# Altium schematic symbol library kmilo17pet-LT_OpAmp_LT1000.SchLib: 2280 symbols (part 75 of 79)
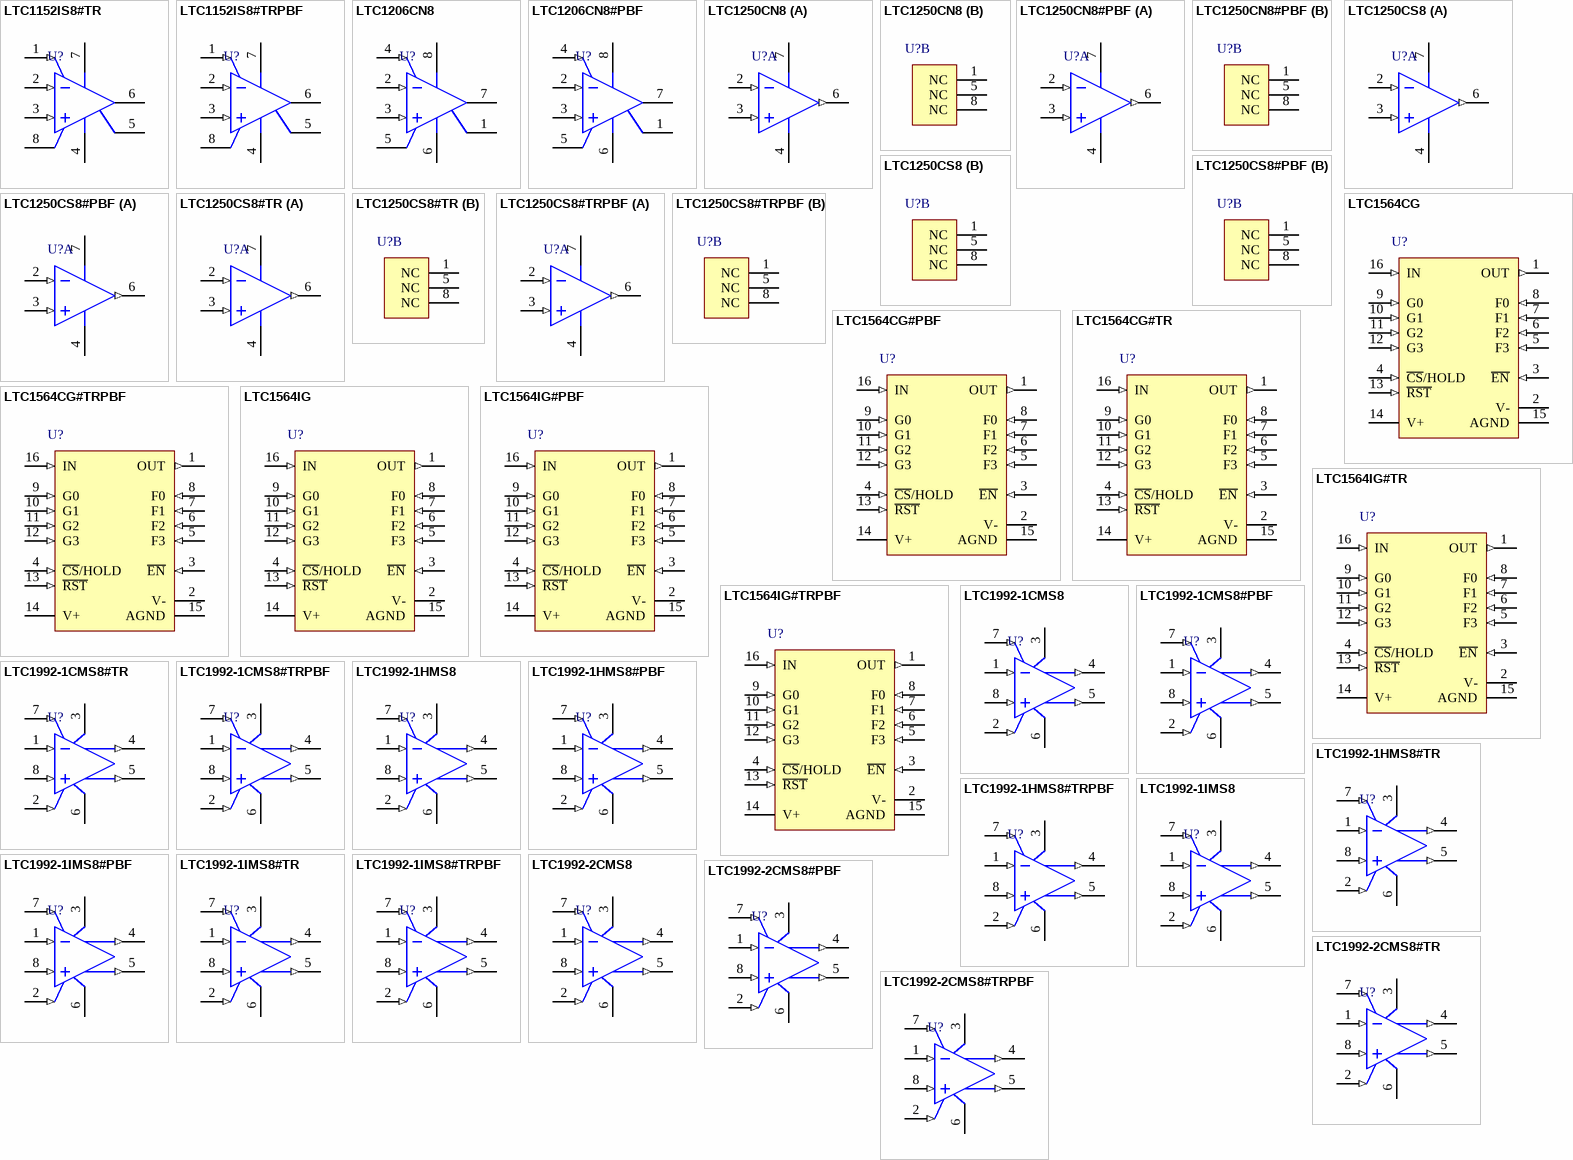
[diagram p179: symbols LTC1152IS8#TR to LTC1992-2CMS8#TRPBF]

## LTC1564CG#TRPBF
designator U?
Single Channel, Digitally Controlled Antialiasing Filter and 4-Bit PGA, 0.15 MHz Typical GBW, 2.7 to 10.5 V, 16-Pin SOP (G16), Commercial, Pb-Free, Reel; Linear Technology Part Number: LTC1564; Manufacturer: Linear Technology; PartNumber: LTC1564CG#TRPBF; Channels (#): 1; GBW (MHz) Typical: 0.15; Is (mA) Typical: 15; Vos (mV) Typical: 3; Vs Max (V): 10.5; Vs Min (V): 2.7; DatasheetVersion: Rev. A; PackageReference: LT-G-16; PackageDescription: 16-Lead Plastic SSOP, Body 6.2 x 5.3 mm, Pitch 0.65 mm; Supplier 1: Digi-Key; Supplier Part Number 1: LTC1564CG#TRPBF-ND; Packing: Reel; RoHS: Pb-Free; Type: PGA; Mounting Technology: Surface Mount; ComponentLink1Description: Manufacturer URL; ComponentLink1URL: http://www.linear.com/; ComponentLink2Description: Datasheet; ComponentLink2URL: http://cds.linear.com/docs/en/datasheet/1564fa.pdf; ComponentLink3Description: Package Specification; ComponentLink3URL: http://cds.linear.com/docs/en/packaging/SSOP_16_05-08-1640.pdf
footprint LT-G-16_N (SOP, 16-Leads, Body 6.2x5.3mm, Pitch 0.65mm, IPC Medium Density)
footprint LT-G-16_L (SOP, 16-Leads, Body 6.2x5.3mm, Pitch 0.65mm, IPC High Density)
footprint LT-G-16_M (SOP, 16-Leads, Body 6.2x5.3mm, Pitch 0.65mm, IPC Low Density)
pins: 1 OUT (out) "Analog Output. In normal filtering, this is the output of an internal operational amplifier and is capable of swinging essentially to any voltage between the power supply rails (that is, between V+ and V-). This output is (See Datasheet)", 2 V- (power) "Power Supply Pins. The V+ and V- pins should be bypassed with 0.1uF capacitors to an adequate analog ground plane using the shortest possible wiring. Electrically clean supplies and a low impedance ground are important for (See Datasheet)", 3 ~{EN} (in) "CMOS-Level Digital Chip Enable Input. Logic 1 or open circuiting this pin causes a shutdown mode with reduced supply current. The active circuitry in the LTC1564 shuts off and its output assumes a high impedance state. If F (See Datasheet)", 4 ~{CS}/HOLD (in) "CMOS-Level Digital Enable Input for the Latch Holding F and G Bits. Logic 0 makes the latch transparent so that the F and G inputs directly control the filter’s cutoff frequency and gain. Logic 1 holds the last values of (See Datasheet)", 5 F3 (in) "CMOS-Level Digital Frequency Control ("F Code") Inputs. F3 is the most significant bit (MSB). These pins program the LTC1564’s cutoff frequency fC through the internal latch, whichpasses the bits directly when the CS/HOLD (See Datasheet)", 6 F2 (in) "CMOS-Level Digital Frequency Control ("F Code") Inputs. F3 is the most significant bit (MSB). These pins program the LTC1564’s cutoff frequency fC through the internal latch, whichpasses the bits directly when the CS/HOLD (See Datasheet)", 7 F1 (in) "CMOS-Level Digital Frequency Control ("F Code") Inputs. F3 is the most significant bit (MSB). These pins program the LTC1564’s cutoff frequency fC through the internal latch, whichpasses the bits directly when the CS/HOLD (See Datasheet)", 8 F0 (in) "CMOS-Level Digital Frequency Control ("F Code") Inputs. F3 is the most significant bit (MSB). These pins program the LTC1564’s cutoff frequency fC through the internal latch, whichpasses the bits directly when the CS/HOLD (See Datasheet)", 9 G0 (in) "CMOS-Level Digital Gain Control ("G Code") Inputs. G3 is the most significant bit (MSB). These pins program the LTC1564’s passband gain through the internal latch, which passes the bits directly when the CS/HOLD input is at (See Datasheet)", 10 G1 (in) "CMOS-Level Digital Gain Control ("G Code") Inputs. G3 is the most significant bit (MSB). These pins program the LTC1564’s passband gain through the internal latch, which passes the bits directly when the CS/HOLD input is at (See Datasheet)", 11 G2 (in) "CMOS-Level Digital Gain Control ("G Code") Inputs. G3 is the most significant bit (MSB). These pins program the LTC1564’s passband gain through the internal latch, which passes the bits directly when the CS/HOLD input is at (See Datasheet)", 12 G3 (in) "CMOS-Level Digital Gain Control ("G Code") Inputs. G3 is the most significant bit (MSB). These pins program the LTC1564’s passband gain through the internal latch, which passes the bits directly when the CS/HOLD input is at (See Datasheet)", 13 ~{RST} (in) "CMOS-Level Asynchronous Reset Input. Logic 0 on this pin immediately resets the internal F and G latch to all zeros, regardless of the state of the CS/HOLD pin or the F or G input pins. This causes the LTC1564 to enter a (See Datasheet)", 14 V+ (power) "Power Supply Pins. The V+ and V- pins should be bypassed with 0.1uF capacitors to an adequate analog ground plane using the shortest possible wiring. Electrically clean supplies and a low impedance ground are important for (See Datasheet)", 15 AGND (power) "Analog Ground. The AGND pin is at the midpoint of an internal resistive voltage divider, developing a potential halfway between the V+ and V- pins, with an equivalent series resistance to the pin of nominally 7k. (In the (See Datasheet)", 16 IN (in) "Analog Input. The filter in the LTC1564 senses the voltage difference between the IN and AGND pins. In normal filtering (EN = 0, RST = 1, F code other than 0000), the IN pin connects within the LTC1564 to a digitally (See Datasheet)"

## LTC1564IG
designator U?
Single Channel, Digitally Controlled Antialiasing Filter and 4-Bit PGA, 0.15 MHz Typical GBW, 2.7 to 10.5 V, 16-Pin SOP (G16), Industrial; Linear Technology Part Number: LTC1564; Manufacturer: Linear Technology; PartNumber: LTC1564IG; Channels (#): 1; GBW (MHz) Typical: 0.15; Is (mA) Typical: 15; Vos (mV) Typical: 3; Vs Max (V): 10.5; Vs Min (V): 2.7; DatasheetVersion: Rev. A; PackageReference: LT-G-16; PackageDescription: 16-Lead Plastic SSOP, Body 6.2 x 5.3 mm, Pitch 0.65 mm; Supplier 1: Newark; Supplier Part Number 1: 56M2178; Type: PGA; Mounting Technology: Surface Mount; ComponentLink1Description: Manufacturer URL; ComponentLink1URL: http://www.linear.com/; ComponentLink2Description: Datasheet; ComponentLink2URL: http://cds.linear.com/docs/en/datasheet/1564fa.pdf; ComponentLink3Description: Package Specification; ComponentLink3URL: http://cds.linear.com/docs/en/packaging/SSOP_16_05-08-1640.pdf
footprint LT-G-16_N (SOP, 16-Leads, Body 6.2x5.3mm, Pitch 0.65mm, IPC Medium Density)
footprint LT-G-16_L (SOP, 16-Leads, Body 6.2x5.3mm, Pitch 0.65mm, IPC High Density)
footprint LT-G-16_M (SOP, 16-Leads, Body 6.2x5.3mm, Pitch 0.65mm, IPC Low Density)
pins: 1 OUT (out) "Analog Output. In normal filtering, this is the output of an internal operational amplifier and is capable of swinging essentially to any voltage between the power supply rails (that is, between V+ and V-). This output is (See Datasheet)", 2 V- (power) "Power Supply Pins. The V+ and V- pins should be bypassed with 0.1uF capacitors to an adequate analog ground plane using the shortest possible wiring. Electrically clean supplies and a low impedance ground are important for (See Datasheet)", 3 ~{EN} (in) "CMOS-Level Digital Chip Enable Input. Logic 1 or open circuiting this pin causes a shutdown mode with reduced supply current. The active circuitry in the LTC1564 shuts off and its output assumes a high impedance state. If F (See Datasheet)", 4 ~{CS}/HOLD (in) "CMOS-Level Digital Enable Input for the Latch Holding F and G Bits. Logic 0 makes the latch transparent so that the F and G inputs directly control the filter’s cutoff frequency and gain. Logic 1 holds the last values of (See Datasheet)", 5 F3 (in) "CMOS-Level Digital Frequency Control ("F Code") Inputs. F3 is the most significant bit (MSB). These pins program the LTC1564’s cutoff frequency fC through the internal latch, whichpasses the bits directly when the CS/HOLD (See Datasheet)", 6 F2 (in) "CMOS-Level Digital Frequency Control ("F Code") Inputs. F3 is the most significant bit (MSB). These pins program the LTC1564’s cutoff frequency fC through the internal latch, whichpasses the bits directly when the CS/HOLD (See Datasheet)", 7 F1 (in) "CMOS-Level Digital Frequency Control ("F Code") Inputs. F3 is the most significant bit (MSB). These pins program the LTC1564’s cutoff frequency fC through the internal latch, whichpasses the bits directly when the CS/HOLD (See Datasheet)", 8 F0 (in) "CMOS-Level Digital Frequency Control ("F Code") Inputs. F3 is the most significant bit (MSB). These pins program the LTC1564’s cutoff frequency fC through the internal latch, whichpasses the bits directly when the CS/HOLD (See Datasheet)", 9 G0 (in) "CMOS-Level Digital Gain Control ("G Code") Inputs. G3 is the most significant bit (MSB). These pins program the LTC1564’s passband gain through the internal latch, which passes the bits directly when the CS/HOLD input is at (See Datasheet)", 10 G1 (in) "CMOS-Level Digital Gain Control ("G Code") Inputs. G3 is the most significant bit (MSB). These pins program the LTC1564’s passband gain through the internal latch, which passes the bits directly when the CS/HOLD input is at (See Datasheet)", 11 G2 (in) "CMOS-Level Digital Gain Control ("G Code") Inputs. G3 is the most significant bit (MSB). These pins program the LTC1564’s passband gain through the internal latch, which passes the bits directly when the CS/HOLD input is at (See Datasheet)", 12 G3 (in) "CMOS-Level Digital Gain Control ("G Code") Inputs. G3 is the most significant bit (MSB). These pins program the LTC1564’s passband gain through the internal latch, which passes the bits directly when the CS/HOLD input is at (See Datasheet)", 13 ~{RST} (in) "CMOS-Level Asynchronous Reset Input. Logic 0 on this pin immediately resets the internal F and G latch to all zeros, regardless of the state of the CS/HOLD pin or the F or G input pins. This causes the LTC1564 to enter a (See Datasheet)", 14 V+ (power) "Power Supply Pins. The V+ and V- pins should be bypassed with 0.1uF capacitors to an adequate analog ground plane using the shortest possible wiring. Electrically clean supplies and a low impedance ground are important for (See Datasheet)", 15 AGND (power) "Analog Ground. The AGND pin is at the midpoint of an internal resistive voltage divider, developing a potential halfway between the V+ and V- pins, with an equivalent series resistance to the pin of nominally 7k. (In the (See Datasheet)", 16 IN (in) "Analog Input. The filter in the LTC1564 senses the voltage difference between the IN and AGND pins. In normal filtering (EN = 0, RST = 1, F code other than 0000), the IN pin connects within the LTC1564 to a digitally (See Datasheet)"

## LTC1564IG#PBF
designator U?
Single Channel, Digitally Controlled Antialiasing Filter and 4-Bit PGA, 0.15 MHz Typical GBW, 2.7 to 10.5 V, 16-Pin SOP (G16), Industrial, Pb-Free; Linear Technology Part Number: LTC1564; Manufacturer: Linear Technology; PartNumber: LTC1564IG#PBF; Channels (#): 1; GBW (MHz) Typical: 0.15; Is (mA) Typical: 15; Vos (mV) Typical: 3; Vs Max (V): 10.5; Vs Min (V): 2.7; DatasheetVersion: Rev. A; PackageReference: LT-G-16; PackageDescription: 16-Lead Plastic SSOP, Body 6.2 x 5.3 mm, Pitch 0.65 mm; Supplier 1: Digi-Key; Supplier Part Number 1: LTC1564IG#PBF-ND; Supplier 2: Farnell; Supplier Part Number 2: 1663646; Supplier 3: Newark; Supplier Part Number 3: 56M2179; RoHS: Pb-Free; Type: PGA; Mounting Technology: Surface Mount; ComponentLink1Description: Manufacturer URL; ComponentLink1URL: http://www.linear.com/; ComponentLink2Description: Datasheet; ComponentLink2URL: http://cds.linear.com/docs/en/datasheet/1564fa.pdf; ComponentLink3Description: Package Specification; ComponentLink3URL: http://cds.linear.com/docs/en/packaging/SSOP_16_05-08-1640.pdf
footprint LT-G-16_N (SOP, 16-Leads, Body 6.2x5.3mm, Pitch 0.65mm, IPC Medium Density)
footprint LT-G-16_L (SOP, 16-Leads, Body 6.2x5.3mm, Pitch 0.65mm, IPC High Density)
footprint LT-G-16_M (SOP, 16-Leads, Body 6.2x5.3mm, Pitch 0.65mm, IPC Low Density)
pins: 1 OUT (out) "Analog Output. In normal filtering, this is the output of an internal operational amplifier and is capable of swinging essentially to any voltage between the power supply rails (that is, between V+ and V-). This output is (See Datasheet)", 2 V- (power) "Power Supply Pins. The V+ and V- pins should be bypassed with 0.1uF capacitors to an adequate analog ground plane using the shortest possible wiring. Electrically clean supplies and a low impedance ground are important for (See Datasheet)", 3 ~{EN} (in) "CMOS-Level Digital Chip Enable Input. Logic 1 or open circuiting this pin causes a shutdown mode with reduced supply current. The active circuitry in the LTC1564 shuts off and its output assumes a high impedance state. If F (See Datasheet)", 4 ~{CS}/HOLD (in) "CMOS-Level Digital Enable Input for the Latch Holding F and G Bits. Logic 0 makes the latch transparent so that the F and G inputs directly control the filter’s cutoff frequency and gain. Logic 1 holds the last values of (See Datasheet)", 5 F3 (in) "CMOS-Level Digital Frequency Control ("F Code") Inputs. F3 is the most significant bit (MSB). These pins program the LTC1564’s cutoff frequency fC through the internal latch, whichpasses the bits directly when the CS/HOLD (See Datasheet)", 6 F2 (in) "CMOS-Level Digital Frequency Control ("F Code") Inputs. F3 is the most significant bit (MSB). These pins program the LTC1564’s cutoff frequency fC through the internal latch, whichpasses the bits directly when the CS/HOLD (See Datasheet)", 7 F1 (in) "CMOS-Level Digital Frequency Control ("F Code") Inputs. F3 is the most significant bit (MSB). These pins program the LTC1564’s cutoff frequency fC through the internal latch, whichpasses the bits directly when the CS/HOLD (See Datasheet)", 8 F0 (in) "CMOS-Level Digital Frequency Control ("F Code") Inputs. F3 is the most significant bit (MSB). These pins program the LTC1564’s cutoff frequency fC through the internal latch, whichpasses the bits directly when the CS/HOLD (See Datasheet)", 9 G0 (in) "CMOS-Level Digital Gain Control ("G Code") Inputs. G3 is the most significant bit (MSB). These pins program the LTC1564’s passband gain through the internal latch, which passes the bits directly when the CS/HOLD input is at (See Datasheet)", 10 G1 (in) "CMOS-Level Digital Gain Control ("G Code") Inputs. G3 is the most significant bit (MSB). These pins program the LTC1564’s passband gain through the internal latch, which passes the bits directly when the CS/HOLD input is at (See Datasheet)", 11 G2 (in) "CMOS-Level Digital Gain Control ("G Code") Inputs. G3 is the most significant bit (MSB). These pins program the LTC1564’s passband gain through the internal latch, which passes the bits directly when the CS/HOLD input is at (See Datasheet)", 12 G3 (in) "CMOS-Level Digital Gain Control ("G Code") Inputs. G3 is the most significant bit (MSB). These pins program the LTC1564’s passband gain through the internal latch, which passes the bits directly when the CS/HOLD input is at (See Datasheet)", 13 ~{RST} (in) "CMOS-Level Asynchronous Reset Input. Logic 0 on this pin immediately resets the internal F and G latch to all zeros, regardless of the state of the CS/HOLD pin or the F or G input pins. This causes the LTC1564 to enter a (See Datasheet)", 14 V+ (power) "Power Supply Pins. The V+ and V- pins should be bypassed with 0.1uF capacitors to an adequate analog ground plane using the shortest possible wiring. Electrically clean supplies and a low impedance ground are important for (See Datasheet)", 15 AGND (power) "Analog Ground. The AGND pin is at the midpoint of an internal resistive voltage divider, developing a potential halfway between the V+ and V- pins, with an equivalent series resistance to the pin of nominally 7k. (In the (See Datasheet)", 16 IN (in) "Analog Input. The filter in the LTC1564 senses the voltage difference between the IN and AGND pins. In normal filtering (EN = 0, RST = 1, F code other than 0000), the IN pin connects within the LTC1564 to a digitally (See Datasheet)"

## LTC1564IG#TR
designator U?
Single Channel, Digitally Controlled Antialiasing Filter and 4-Bit PGA, 0.15 MHz Typical GBW, 2.7 to 10.5 V, 16-Pin SOP (G16), Industrial, Reel; Linear Technology Part Number: LTC1564; Manufacturer: Linear Technology; PartNumber: LTC1564IG#TR; Channels (#): 1; GBW (MHz) Typical: 0.15; Is (mA) Typical: 15; Vos (mV) Typical: 3; Vs Max (V): 10.5; Vs Min (V): 2.7; DatasheetVersion: Rev. A; PackageReference: LT-G-16; PackageDescription: 16-Lead Plastic SSOP, Body 6.2 x 5.3 mm, Pitch 0.65 mm; Supplier 1: Digi-Key; Supplier Part Number 1: LTC1564IGTR-ND; Packing: Reel; Type: PGA; Mounting Technology: Surface Mount; ComponentLink1Description: Manufacturer URL; ComponentLink1URL: http://www.linear.com/; ComponentLink2Description: Datasheet; ComponentLink2URL: http://cds.linear.com/docs/en/datasheet/1564fa.pdf; ComponentLink3Description: Package Specification; ComponentLink3URL: http://cds.linear.com/docs/en/packaging/SSOP_16_05-08-1640.pdf
footprint LT-G-16_N (SOP, 16-Leads, Body 6.2x5.3mm, Pitch 0.65mm, IPC Medium Density)
footprint LT-G-16_L (SOP, 16-Leads, Body 6.2x5.3mm, Pitch 0.65mm, IPC High Density)
footprint LT-G-16_M (SOP, 16-Leads, Body 6.2x5.3mm, Pitch 0.65mm, IPC Low Density)
pins: 1 OUT (out) "Analog Output. In normal filtering, this is the output of an internal operational amplifier and is capable of swinging essentially to any voltage between the power supply rails (that is, between V+ and V-). This output is (See Datasheet)", 2 V- (power) "Power Supply Pins. The V+ and V- pins should be bypassed with 0.1uF capacitors to an adequate analog ground plane using the shortest possible wiring. Electrically clean supplies and a low impedance ground are important for (See Datasheet)", 3 ~{EN} (in) "CMOS-Level Digital Chip Enable Input. Logic 1 or open circuiting this pin causes a shutdown mode with reduced supply current. The active circuitry in the LTC1564 shuts off and its output assumes a high impedance state. If F (See Datasheet)", 4 ~{CS}/HOLD (in) "CMOS-Level Digital Enable Input for the Latch Holding F and G Bits. Logic 0 makes the latch transparent so that the F and G inputs directly control the filter’s cutoff frequency and gain. Logic 1 holds the last values of (See Datasheet)", 5 F3 (in) "CMOS-Level Digital Frequency Control ("F Code") Inputs. F3 is the most significant bit (MSB). These pins program the LTC1564’s cutoff frequency fC through the internal latch, whichpasses the bits directly when the CS/HOLD (See Datasheet)", 6 F2 (in) "CMOS-Level Digital Frequency Control ("F Code") Inputs. F3 is the most significant bit (MSB). These pins program the LTC1564’s cutoff frequency fC through the internal latch, whichpasses the bits directly when the CS/HOLD (See Datasheet)", 7 F1 (in) "CMOS-Level Digital Frequency Control ("F Code") Inputs. F3 is the most significant bit (MSB). These pins program the LTC1564’s cutoff frequency fC through the internal latch, whichpasses the bits directly when the CS/HOLD (See Datasheet)", 8 F0 (in) "CMOS-Level Digital Frequency Control ("F Code") Inputs. F3 is the most significant bit (MSB). These pins program the LTC1564’s cutoff frequency fC through the internal latch, whichpasses the bits directly when the CS/HOLD (See Datasheet)", 9 G0 (in) "CMOS-Level Digital Gain Control ("G Code") Inputs. G3 is the most significant bit (MSB). These pins program the LTC1564’s passband gain through the internal latch, which passes the bits directly when the CS/HOLD input is at (See Datasheet)", 10 G1 (in) "CMOS-Level Digital Gain Control ("G Code") Inputs. G3 is the most significant bit (MSB). These pins program the LTC1564’s passband gain through the internal latch, which passes the bits directly when the CS/HOLD input is at (See Datasheet)", 11 G2 (in) "CMOS-Level Digital Gain Control ("G Code") Inputs. G3 is the most significant bit (MSB). These pins program the LTC1564’s passband gain through the internal latch, which passes the bits directly when the CS/HOLD input is at (See Datasheet)", 12 G3 (in) "CMOS-Level Digital Gain Control ("G Code") Inputs. G3 is the most significant bit (MSB). These pins program the LTC1564’s passband gain through the internal latch, which passes the bits directly when the CS/HOLD input is at (See Datasheet)", 13 ~{RST} (in) "CMOS-Level Asynchronous Reset Input. Logic 0 on this pin immediately resets the internal F and G latch to all zeros, regardless of the state of the CS/HOLD pin or the F or G input pins. This causes the LTC1564 to enter a (See Datasheet)", 14 V+ (power) "Power Supply Pins. The V+ and V- pins should be bypassed with 0.1uF capacitors to an adequate analog ground plane using the shortest possible wiring. Electrically clean supplies and a low impedance ground are important for (See Datasheet)", 15 AGND (power) "Analog Ground. The AGND pin is at the midpoint of an internal resistive voltage divider, developing a potential halfway between the V+ and V- pins, with an equivalent series resistance to the pin of nominally 7k. (In the (See Datasheet)", 16 IN (in) "Analog Input. The filter in the LTC1564 senses the voltage difference between the IN and AGND pins. In normal filtering (EN = 0, RST = 1, F code other than 0000), the IN pin connects within the LTC1564 to a digitally (See Datasheet)"

## LTC1564IG#TRPBF
designator U?
Single Channel, Digitally Controlled Antialiasing Filter and 4-Bit PGA, 0.15 MHz Typical GBW, 2.7 to 10.5 V, 16-Pin SOP (G16), Industrial, Pb-Free, Reel; Linear Technology Part Number: LTC1564; Manufacturer: Linear Technology; PartNumber: LTC1564IG#TRPBF; Channels (#): 1; GBW (MHz) Typical: 0.15; Is (mA) Typical: 15; Vos (mV) Typical: 3; Vs Max (V): 10.5; Vs Min (V): 2.7; DatasheetVersion: Rev. A; PackageReference: LT-G-16; PackageDescription: 16-Lead Plastic SSOP, Body 6.2 x 5.3 mm, Pitch 0.65 mm; Supplier 1: Digi-Key; Supplier Part Number 1: LTC1564IG#TRPBF-ND; Packing: Reel; RoHS: Pb-Free; Type: PGA; Mounting Technology: Surface Mount; ComponentLink1Description: Manufacturer URL; ComponentLink1URL: http://www.linear.com/; ComponentLink2Description: Datasheet; ComponentLink2URL: http://cds.linear.com/docs/en/datasheet/1564fa.pdf; ComponentLink3Description: Package Specification; ComponentLink3URL: http://cds.linear.com/docs/en/packaging/SSOP_16_05-08-1640.pdf
footprint LT-G-16_N (SOP, 16-Leads, Body 6.2x5.3mm, Pitch 0.65mm, IPC Medium Density)
footprint LT-G-16_L (SOP, 16-Leads, Body 6.2x5.3mm, Pitch 0.65mm, IPC High Density)
footprint LT-G-16_M (SOP, 16-Leads, Body 6.2x5.3mm, Pitch 0.65mm, IPC Low Density)
pins: 1 OUT (out) "Analog Output. In normal filtering, this is the output of an internal operational amplifier and is capable of swinging essentially to any voltage between the power supply rails (that is, between V+ and V-). This output is (See Datasheet)", 2 V- (power) "Power Supply Pins. The V+ and V- pins should be bypassed with 0.1uF capacitors to an adequate analog ground plane using the shortest possible wiring. Electrically clean supplies and a low impedance ground are important for (See Datasheet)", 3 ~{EN} (in) "CMOS-Level Digital Chip Enable Input. Logic 1 or open circuiting this pin causes a shutdown mode with reduced supply current. The active circuitry in the LTC1564 shuts off and its output assumes a high impedance state. If F (See Datasheet)", 4 ~{CS}/HOLD (in) "CMOS-Level Digital Enable Input for the Latch Holding F and G Bits. Logic 0 makes the latch transparent so that the F and G inputs directly control the filter’s cutoff frequency and gain. Logic 1 holds the last values of (See Datasheet)", 5 F3 (in) "CMOS-Level Digital Frequency Control ("F Code") Inputs. F3 is the most significant bit (MSB). These pins program the LTC1564’s cutoff frequency fC through the internal latch, whichpasses the bits directly when the CS/HOLD (See Datasheet)", 6 F2 (in) "CMOS-Level Digital Frequency Control ("F Code") Inputs. F3 is the most significant bit (MSB). These pins program the LTC1564’s cutoff frequency fC through the internal latch, whichpasses the bits directly when the CS/HOLD (See Datasheet)", 7 F1 (in) "CMOS-Level Digital Frequency Control ("F Code") Inputs. F3 is the most significant bit (MSB). These pins program the LTC1564’s cutoff frequency fC through the internal latch, whichpasses the bits directly when the CS/HOLD (See Datasheet)", 8 F0 (in) "CMOS-Level Digital Frequency Control ("F Code") Inputs. F3 is the most significant bit (MSB). These pins program the LTC1564’s cutoff frequency fC through the internal latch, whichpasses the bits directly when the CS/HOLD (See Datasheet)", 9 G0 (in) "CMOS-Level Digital Gain Control ("G Code") Inputs. G3 is the most significant bit (MSB). These pins program the LTC1564’s passband gain through the internal latch, which passes the bits directly when the CS/HOLD input is at (See Datasheet)", 10 G1 (in) "CMOS-Level Digital Gain Control ("G Code") Inputs. G3 is the most significant bit (MSB). These pins program the LTC1564’s passband gain through the internal latch, which passes the bits directly when the CS/HOLD input is at (See Datasheet)", 11 G2 (in) "CMOS-Level Digital Gain Control ("G Code") Inputs. G3 is the most significant bit (MSB). These pins program the LTC1564’s passband gain through the internal latch, which passes the bits directly when the CS/HOLD input is at (See Datasheet)", 12 G3 (in) "CMOS-Level Digital Gain Control ("G Code") Inputs. G3 is the most significant bit (MSB). These pins program the LTC1564’s passband gain through the internal latch, which passes the bits directly when the CS/HOLD input is at (See Datasheet)", 13 ~{RST} (in) "CMOS-Level Asynchronous Reset Input. Logic 0 on this pin immediately resets the internal F and G latch to all zeros, regardless of the state of the CS/HOLD pin or the F or G input pins. This causes the LTC1564 to enter a (See Datasheet)", 14 V+ (power) "Power Supply Pins. The V+ and V- pins should be bypassed with 0.1uF capacitors to an adequate analog ground plane using the shortest possible wiring. Electrically clean supplies and a low impedance ground are important for (See Datasheet)", 15 AGND (power) "Analog Ground. The AGND pin is at the midpoint of an internal resistive voltage divider, developing a potential halfway between the V+ and V- pins, with an equivalent series resistance to the pin of nominally 7k. (In the (See Datasheet)", 16 IN (in) "Analog Input. The filter in the LTC1564 senses the voltage difference between the IN and AGND pins. In normal filtering (EN = 0, RST = 1, F code other than 0000), the IN pin connects within the LTC1564 to a digitally (See Datasheet)"

## LTC1992-1CMS8
designator U?
Single Channel, Low Power, Fully Differential Input / Output Amplifier / Driver, 4 MHz Typical GBW, 0.75 V/us Typical SR, 2.4 to 12 V, 8-Pin SOP (MS8-8), Commercial; Linear Technology Part Number: LTC1992-1; Manufacturer: Linear Technology; PartNumber: LTC1992-1CMS8; Channels (#): 1; GBW (MHz) Typical: 4; Is (mA) Typical: 0.65; SR (V/us) Typical: 0.75; Vos (mV) Typical: 0.25; Vs Max (V): 12; Vs Min (V): 2.4; DatasheetVersion: Rev. A; PackageVersion: Rev G; PackageReference: LT-MS8-8; PackageDescription: 8-Lead Plastic Small Outline, Body 3.9 x 4.9 mm, Pitch 1.27 mm; Supplier 1: Digi-Key; Supplier Part Number 1: LTC1992-1CMS8-ND; Type: DIFF; Mounting Technology: Surface Mount; ComponentLink1Description: Manufacturer URL; ComponentLink1URL: http://www.linear.com/; ComponentLink2Description: Datasheet; ComponentLink2URL: http://cds.linear.com/docs/en/datasheet/1992fb.pdf; ComponentLink3Description: Package Specification; ComponentLink3URL: http://cds.linear.com/docs/en/packaging/05081610_G_SO8.pdf
footprint LT-MS8-8_N (SOP, 8-Leads, Body 3x3mm, Pitch 0.65mm, IPC Medium Density)
footprint LT-MS8-8_L (SOP, 8-Leads, Body 3x3mm, Pitch 0.65mm, IPC High Density)
footprint LT-MS8-8_M (SOP, 8-Leads, Body 3x3mm, Pitch 0.65mm, IPC Low Density)
pins: 1 -IN (in) "Inverting and Noninverting Inputs of the Amplifier. For the LTC1992 part, these pins are connected directly to the amplifier’s P-channel MOSFET input devices. The fixed gain LTC1992-X parts have precision, on-chip gain (See Datasheet)", 2 VOCM (in) "Output Common Mode Voltage Set Pin. The voltage on this pin sets the output signal’s common mode voltage level. The output common mode level is set independent of the input common mode level. This is a high impedance input (See Datasheet)", 3 +VS (power) "The +VS and -VS power supply pins should be bypassed with 0.1uF capacitors to an adequate analog ground or ground plane. The bypass capacitors should be located as closely as possible to the supply pins.", 4 +OUT (out) "The Positive and Negative Outputs of the Amplifier. These rail-to-rail outputs are designed to drive capacitive loads as high as 10,000pF.", 5 -OUT (out) "The Positive and Negative Outputs of the Amplifier. These rail-to-rail outputs are designed to drive capacitive loads as high as 10,000pF.", 6 -VS (power) "The +VS and -VS power supply pins should be bypassed with 0.1uF capacitors to an adequate analog ground or ground plane. The bypass capacitors should be located as closely as possible to the supply pins.", 7 VMID (in) "Mid-Supply Reference. This pin is connected to an on-chip resistive voltage divider to provide a midsupply reference. This provides a convenient way to set the output common mode level at half-supply. If used for this (See Datasheet)", 8 +IN (in) "Inverting and Noninverting Inputs of the Amplifier. For the LTC1992 part, these pins are connected directly to the amplifier’s P-channel MOSFET input devices. The fixed gain LTC1992-X parts have precision, on-chip gain (See Datasheet)"

## LTC1992-1CMS8#PBF
designator U?
Single Channel, Low Power, Fully Differential Input / Output Amplifier / Driver, 4 MHz Typical GBW, 0.75 V/us Typical SR, 2.4 to 12 V, 8-Pin SOP (MS8-8), Commercial, Pb-Free; Linear Technology Part Number: LTC1992-1; Manufacturer: Linear Technology; PartNumber: LTC1992-1CMS8#PBF; Channels (#): 1; GBW (MHz) Typical: 4; Is (mA) Typical: 0.65; SR (V/us) Typical: 0.75; Vos (mV) Typical: 0.25; Vs Max (V): 12; Vs Min (V): 2.4; DatasheetVersion: Rev. A; PackageVersion: Rev G; PackageReference: LT-MS8-8; PackageDescription: 8-Lead Plastic Small Outline, Body 3.9 x 4.9 mm, Pitch 1.27 mm; Supplier 1: Digi-Key; Supplier Part Number 1: LTC1992-1CMS8#PBF-ND; Supplier 2: Farnell; Supplier Part Number 2: 1330892; Supplier 3: Newark; Supplier Part Number 3: 56M4436; RoHS: Pb-Free; Type: DIFF; Mounting Technology: Surface Mount; ComponentLink1Description: Manufacturer URL; ComponentLink1URL: http://www.linear.com/; ComponentLink2Description: Datasheet; ComponentLink2URL: http://cds.linear.com/docs/en/datasheet/1992fb.pdf; ComponentLink3Description: Package Specification; ComponentLink3URL: http://cds.linear.com/docs/en/packaging/05081610_G_SO8.pdf
footprint LT-MS8-8_N (SOP, 8-Leads, Body 3x3mm, Pitch 0.65mm, IPC Medium Density)
footprint LT-MS8-8_L (SOP, 8-Leads, Body 3x3mm, Pitch 0.65mm, IPC High Density)
footprint LT-MS8-8_M (SOP, 8-Leads, Body 3x3mm, Pitch 0.65mm, IPC Low Density)
pins: 1 -IN (in) "Inverting and Noninverting Inputs of the Amplifier. For the LTC1992 part, these pins are connected directly to the amplifier’s P-channel MOSFET input devices. The fixed gain LTC1992-X parts have precision, on-chip gain (See Datasheet)", 2 VOCM (in) "Output Common Mode Voltage Set Pin. The voltage on this pin sets the output signal’s common mode voltage level. The output common mode level is set independent of the input common mode level. This is a high impedance input (See Datasheet)", 3 +VS (power) "The +VS and -VS power supply pins should be bypassed with 0.1uF capacitors to an adequate analog ground or ground plane. The bypass capacitors should be located as closely as possible to the supply pins.", 4 +OUT (out) "The Positive and Negative Outputs of the Amplifier. These rail-to-rail outputs are designed to drive capacitive loads as high as 10,000pF.", 5 -OUT (out) "The Positive and Negative Outputs of the Amplifier. These rail-to-rail outputs are designed to drive capacitive loads as high as 10,000pF.", 6 -VS (power) "The +VS and -VS power supply pins should be bypassed with 0.1uF capacitors to an adequate analog ground or ground plane. The bypass capacitors should be located as closely as possible to the supply pins.", 7 VMID (in) "Mid-Supply Reference. This pin is connected to an on-chip resistive voltage divider to provide a midsupply reference. This provides a convenient way to set the output common mode level at half-supply. If used for this (See Datasheet)", 8 +IN (in) "Inverting and Noninverting Inputs of the Amplifier. For the LTC1992 part, these pins are connected directly to the amplifier’s P-channel MOSFET input devices. The fixed gain LTC1992-X parts have precision, on-chip gain (See Datasheet)"

## LTC1992-1CMS8#TR
designator U?
Single Channel, Low Power, Fully Differential Input / Output Amplifier / Driver, 4 MHz Typical GBW, 0.75 V/us Typical SR, 2.4 to 12 V, 8-Pin SOP (MS8-8), Commercial, Reel; Linear Technology Part Number: LTC1992-1; Manufacturer: Linear Technology; PartNumber: LTC1992-1CMS8#TR; Channels (#): 1; GBW (MHz) Typical: 4; Is (mA) Typical: 0.65; SR (V/us) Typical: 0.75; Vos (mV) Typical: 0.25; Vs Max (V): 12; Vs Min (V): 2.4; DatasheetVersion: Rev. A; PackageVersion: Rev G; PackageReference: LT-MS8-8; PackageDescription: 8-Lead Plastic Small Outline, Body 3.9 x 4.9 mm, Pitch 1.27 mm; Supplier 1: Digi-Key; Supplier Part Number 1: LTC1992-1CMS8#TR-ND; Packing: Reel; Type: DIFF; Mounting Technology: Surface Mount; ComponentLink1Description: Manufacturer URL; ComponentLink1URL: http://www.linear.com/; ComponentLink2Description: Datasheet; ComponentLink2URL: http://cds.linear.com/docs/en/datasheet/1992fb.pdf; ComponentLink3Description: Package Specification; ComponentLink3URL: http://cds.linear.com/docs/en/packaging/05081610_G_SO8.pdf
footprint LT-MS8-8_N (SOP, 8-Leads, Body 3x3mm, Pitch 0.65mm, IPC Medium Density)
footprint LT-MS8-8_L (SOP, 8-Leads, Body 3x3mm, Pitch 0.65mm, IPC High Density)
footprint LT-MS8-8_M (SOP, 8-Leads, Body 3x3mm, Pitch 0.65mm, IPC Low Density)
pins: 1 -IN (in) "Inverting and Noninverting Inputs of the Amplifier. For the LTC1992 part, these pins are connected directly to the amplifier’s P-channel MOSFET input devices. The fixed gain LTC1992-X parts have precision, on-chip gain (See Datasheet)", 2 VOCM (in) "Output Common Mode Voltage Set Pin. The voltage on this pin sets the output signal’s common mode voltage level. The output common mode level is set independent of the input common mode level. This is a high impedance input (See Datasheet)", 3 +VS (power) "The +VS and -VS power supply pins should be bypassed with 0.1uF capacitors to an adequate analog ground or ground plane. The bypass capacitors should be located as closely as possible to the supply pins.", 4 +OUT (out) "The Positive and Negative Outputs of the Amplifier. These rail-to-rail outputs are designed to drive capacitive loads as high as 10,000pF.", 5 -OUT (out) "The Positive and Negative Outputs of the Amplifier. These rail-to-rail outputs are designed to drive capacitive loads as high as 10,000pF.", 6 -VS (power) "The +VS and -VS power supply pins should be bypassed with 0.1uF capacitors to an adequate analog ground or ground plane. The bypass capacitors should be located as closely as possible to the supply pins.", 7 VMID (in) "Mid-Supply Reference. This pin is connected to an on-chip resistive voltage divider to provide a midsupply reference. This provides a convenient way to set the output common mode level at half-supply. If used for this (See Datasheet)", 8 +IN (in) "Inverting and Noninverting Inputs of the Amplifier. For the LTC1992 part, these pins are connected directly to the amplifier’s P-channel MOSFET input devices. The fixed gain LTC1992-X parts have precision, on-chip gain (See Datasheet)"

## LTC1992-1CMS8#TRPBF
designator U?
Single Channel, Low Power, Fully Differential Input / Output Amplifier / Driver, 4 MHz Typical GBW, 0.75 V/us Typical SR, 2.4 to 12 V, 8-Pin SOP (MS8-8), Commercial, Pb-Free, Reel; Linear Technology Part Number: LTC1992-1; Manufacturer: Linear Technology; PartNumber: LTC1992-1CMS8#TRPBF; Channels (#): 1; GBW (MHz) Typical: 4; Is (mA) Typical: 0.65; SR (V/us) Typical: 0.75; Vos (mV) Typical: 0.25; Vs Max (V): 12; Vs Min (V): 2.4; DatasheetVersion: Rev. A; PackageVersion: Rev G; PackageReference: LT-MS8-8; PackageDescription: 8-Lead Plastic Small Outline, Body 3.9 x 4.9 mm, Pitch 1.27 mm; Supplier 1: Digi-Key; Supplier Part Number 1: LTC1992-1CMS8#TRPBF-ND; Packing: Reel; RoHS: Pb-Free; Type: DIFF; Mounting Technology: Surface Mount; ComponentLink1Description: Manufacturer URL; ComponentLink1URL: http://www.linear.com/; ComponentLink2Description: Datasheet; ComponentLink2URL: http://cds.linear.com/docs/en/datasheet/1992fb.pdf; ComponentLink3Description: Package Specification; ComponentLink3URL: http://cds.linear.com/docs/en/packaging/05081610_G_SO8.pdf
footprint LT-MS8-8_N (SOP, 8-Leads, Body 3x3mm, Pitch 0.65mm, IPC Medium Density)
footprint LT-MS8-8_L (SOP, 8-Leads, Body 3x3mm, Pitch 0.65mm, IPC High Density)
footprint LT-MS8-8_M (SOP, 8-Leads, Body 3x3mm, Pitch 0.65mm, IPC Low Density)
pins: 1 -IN (in) "Inverting and Noninverting Inputs of the Amplifier. For the LTC1992 part, these pins are connected directly to the amplifier’s P-channel MOSFET input devices. The fixed gain LTC1992-X parts have precision, on-chip gain (See Datasheet)", 2 VOCM (in) "Output Common Mode Voltage Set Pin. The voltage on this pin sets the output signal’s common mode voltage level. The output common mode level is set independent of the input common mode level. This is a high impedance input (See Datasheet)", 3 +VS (power) "The +VS and -VS power supply pins should be bypassed with 0.1uF capacitors to an adequate analog ground or ground plane. The bypass capacitors should be located as closely as possible to the supply pins.", 4 +OUT (out) "The Positive and Negative Outputs of the Amplifier. These rail-to-rail outputs are designed to drive capacitive loads as high as 10,000pF.", 5 -OUT (out) "The Positive and Negative Outputs of the Amplifier. These rail-to-rail outputs are designed to drive capacitive loads as high as 10,000pF.", 6 -VS (power) "The +VS and -VS power supply pins should be bypassed with 0.1uF capacitors to an adequate analog ground or ground plane. The bypass capacitors should be located as closely as possible to the supply pins.", 7 VMID (in) "Mid-Supply Reference. This pin is connected to an on-chip resistive voltage divider to provide a midsupply reference. This provides a convenient way to set the output common mode level at half-supply. If used for this (See Datasheet)", 8 +IN (in) "Inverting and Noninverting Inputs of the Amplifier. For the LTC1992 part, these pins are connected directly to the amplifier’s P-channel MOSFET input devices. The fixed gain LTC1992-X parts have precision, on-chip gain (See Datasheet)"

## LTC1992-1HMS8
designator U?
Single Channel, Low Power, Fully Differential Input / Output Amplifier / Driver, 4 MHz Typical GBW, 0.75 V/us Typical SR, 2.4 to 12 V, 8-Pin SOP (MS8-8), High Temperature / Automotive; Linear Technology Part Number: LTC1992-1; Manufacturer: Linear Technology; PartNumber: LTC1992-1HMS8; Channels (#): 1; GBW (MHz) Typical: 4; Is (mA) Typical: 0.65; SR (V/us) Typical: 0.75; Vos (mV) Typical: 0.25; Vs Max (V): 12; Vs Min (V): 2.4; DatasheetVersion: Rev. A; PackageVersion: Rev G; PackageReference: LT-MS8-8; PackageDescription: 8-Lead Plastic Small Outline, Body 3.9 x 4.9 mm, Pitch 1.27 mm; Supplier 1: Digi-Key; Supplier Part Number 1: LTC1992-1HMS8-ND; Type: DIFF; Mounting Technology: Surface Mount; ComponentLink1Description: Manufacturer URL; ComponentLink1URL: http://www.linear.com/; ComponentLink2Description: Datasheet; ComponentLink2URL: http://cds.linear.com/docs/en/datasheet/1992fb.pdf; ComponentLink3Description: Package Specification; ComponentLink3URL: http://cds.linear.com/docs/en/packaging/05081610_G_SO8.pdf
footprint LT-MS8-8_N (SOP, 8-Leads, Body 3x3mm, Pitch 0.65mm, IPC Medium Density)
footprint LT-MS8-8_L (SOP, 8-Leads, Body 3x3mm, Pitch 0.65mm, IPC High Density)
footprint LT-MS8-8_M (SOP, 8-Leads, Body 3x3mm, Pitch 0.65mm, IPC Low Density)
pins: 1 -IN (in) "Inverting and Noninverting Inputs of the Amplifier. For the LTC1992 part, these pins are connected directly to the amplifier’s P-channel MOSFET input devices. The fixed gain LTC1992-X parts have precision, on-chip gain (See Datasheet)", 2 VOCM (in) "Output Common Mode Voltage Set Pin. The voltage on this pin sets the output signal’s common mode voltage level. The output common mode level is set independent of the input common mode level. This is a high impedance input (See Datasheet)", 3 +VS (power) "The +VS and -VS power supply pins should be bypassed with 0.1uF capacitors to an adequate analog ground or ground plane. The bypass capacitors should be located as closely as possible to the supply pins.", 4 +OUT (out) "The Positive and Negative Outputs of the Amplifier. These rail-to-rail outputs are designed to drive capacitive loads as high as 10,000pF.", 5 -OUT (out) "The Positive and Negative Outputs of the Amplifier. These rail-to-rail outputs are designed to drive capacitive loads as high as 10,000pF.", 6 -VS (power) "The +VS and -VS power supply pins should be bypassed with 0.1uF capacitors to an adequate analog ground or ground plane. The bypass capacitors should be located as closely as possible to the supply pins.", 7 VMID (in) "Mid-Supply Reference. This pin is connected to an on-chip resistive voltage divider to provide a midsupply reference. This provides a convenient way to set the output common mode level at half-supply. If used for this (See Datasheet)", 8 +IN (in) "Inverting and Noninverting Inputs of the Amplifier. For the LTC1992 part, these pins are connected directly to the amplifier’s P-channel MOSFET input devices. The fixed gain LTC1992-X parts have precision, on-chip gain (See Datasheet)"

## LTC1992-1HMS8#PBF
designator U?
Single Channel, Low Power, Fully Differential Input / Output Amplifier / Driver, 4 MHz Typical GBW, 0.75 V/us Typical SR, 2.4 to 12 V, 8-Pin SOP (MS8-8), High Temperature / Automotive, Pb-Free; Linear Technology Part Number: LTC1992-1; Manufacturer: Linear Technology; PartNumber: LTC1992-1HMS8#PBF; Channels (#): 1; GBW (MHz) Typical: 4; Is (mA) Typical: 0.65; SR (V/us) Typical: 0.75; Vos (mV) Typical: 0.25; Vs Max (V): 12; Vs Min (V): 2.4; DatasheetVersion: Rev. A; PackageVersion: Rev G; PackageReference: LT-MS8-8; PackageDescription: 8-Lead Plastic Small Outline, Body 3.9 x 4.9 mm, Pitch 1.27 mm; Supplier 1: Digi-Key; Supplier Part Number 1: LTC1992-1HMS8#PBF-ND; Supplier 2: Newark; Supplier Part Number 2: 56M4440; RoHS: Pb-Free; Type: DIFF; Mounting Technology: Surface Mount; ComponentLink1Description: Manufacturer URL; ComponentLink1URL: http://www.linear.com/; ComponentLink2Description: Datasheet; ComponentLink2URL: http://cds.linear.com/docs/en/datasheet/1992fb.pdf; ComponentLink3Description: Package Specification; ComponentLink3URL: http://cds.linear.com/docs/en/packaging/05081610_G_SO8.pdf
footprint LT-MS8-8_N (SOP, 8-Leads, Body 3x3mm, Pitch 0.65mm, IPC Medium Density)
footprint LT-MS8-8_L (SOP, 8-Leads, Body 3x3mm, Pitch 0.65mm, IPC High Density)
footprint LT-MS8-8_M (SOP, 8-Leads, Body 3x3mm, Pitch 0.65mm, IPC Low Density)
pins: 1 -IN (in) "Inverting and Noninverting Inputs of the Amplifier. For the LTC1992 part, these pins are connected directly to the amplifier’s P-channel MOSFET input devices. The fixed gain LTC1992-X parts have precision, on-chip gain (See Datasheet)", 2 VOCM (in) "Output Common Mode Voltage Set Pin. The voltage on this pin sets the output signal’s common mode voltage level. The output common mode level is set independent of the input common mode level. This is a high impedance input (See Datasheet)", 3 +VS (power) "The +VS and -VS power supply pins should be bypassed with 0.1uF capacitors to an adequate analog ground or ground plane. The bypass capacitors should be located as closely as possible to the supply pins.", 4 +OUT (out) "The Positive and Negative Outputs of the Amplifier. These rail-to-rail outputs are designed to drive capacitive loads as high as 10,000pF.", 5 -OUT (out) "The Positive and Negative Outputs of the Amplifier. These rail-to-rail outputs are designed to drive capacitive loads as high as 10,000pF.", 6 -VS (power) "The +VS and -VS power supply pins should be bypassed with 0.1uF capacitors to an adequate analog ground or ground plane. The bypass capacitors should be located as closely as possible to the supply pins.", 7 VMID (in) "Mid-Supply Reference. This pin is connected to an on-chip resistive voltage divider to provide a midsupply reference. This provides a convenient way to set the output common mode level at half-supply. If used for this (See Datasheet)", 8 +IN (in) "Inverting and Noninverting Inputs of the Amplifier. For the LTC1992 part, these pins are connected directly to the amplifier’s P-channel MOSFET input devices. The fixed gain LTC1992-X parts have precision, on-chip gain (See Datasheet)"

## LTC1992-1HMS8#TR
designator U?
Single Channel, Low Power, Fully Differential Input / Output Amplifier / Driver, 4 MHz Typical GBW, 0.75 V/us Typical SR, 2.4 to 12 V, 8-Pin SOP (MS8-8), High Temperature / Automotive, Reel; Linear Technology Part Number: LTC1992-1; Manufacturer: Linear Technology; PartNumber: LTC1992-1HMS8#TR; Channels (#): 1; GBW (MHz) Typical: 4; Is (mA) Typical: 0.65; SR (V/us) Typical: 0.75; Vos (mV) Typical: 0.25; Vs Max (V): 12; Vs Min (V): 2.4; DatasheetVersion: Rev. A; PackageVersion: Rev G; PackageReference: LT-MS8-8; PackageDescription: 8-Lead Plastic Small Outline, Body 3.9 x 4.9 mm, Pitch 1.27 mm; Supplier 1: Digi-Key; Supplier Part Number 1: LTC1992-1HMS8#TR-ND; Packing: Reel; Type: DIFF; Mounting Technology: Surface Mount; ComponentLink1Description: Manufacturer URL; ComponentLink1URL: http://www.linear.com/; ComponentLink2Description: Datasheet; ComponentLink2URL: http://cds.linear.com/docs/en/datasheet/1992fb.pdf; ComponentLink3Description: Package Specification; ComponentLink3URL: http://cds.linear.com/docs/en/packaging/05081610_G_SO8.pdf
footprint LT-MS8-8_N (SOP, 8-Leads, Body 3x3mm, Pitch 0.65mm, IPC Medium Density)
footprint LT-MS8-8_L (SOP, 8-Leads, Body 3x3mm, Pitch 0.65mm, IPC High Density)
footprint LT-MS8-8_M (SOP, 8-Leads, Body 3x3mm, Pitch 0.65mm, IPC Low Density)
pins: 1 -IN (in) "Inverting and Noninverting Inputs of the Amplifier. For the LTC1992 part, these pins are connected directly to the amplifier’s P-channel MOSFET input devices. The fixed gain LTC1992-X parts have precision, on-chip gain (See Datasheet)", 2 VOCM (in) "Output Common Mode Voltage Set Pin. The voltage on this pin sets the output signal’s common mode voltage level. The output common mode level is set independent of the input common mode level. This is a high impedance input (See Datasheet)", 3 +VS (power) "The +VS and -VS power supply pins should be bypassed with 0.1uF capacitors to an adequate analog ground or ground plane. The bypass capacitors should be located as closely as possible to the supply pins.", 4 +OUT (out) "The Positive and Negative Outputs of the Amplifier. These rail-to-rail outputs are designed to drive capacitive loads as high as 10,000pF.", 5 -OUT (out) "The Positive and Negative Outputs of the Amplifier. These rail-to-rail outputs are designed to drive capacitive loads as high as 10,000pF.", 6 -VS (power) "The +VS and -VS power supply pins should be bypassed with 0.1uF capacitors to an adequate analog ground or ground plane. The bypass capacitors should be located as closely as possible to the supply pins.", 7 VMID (in) "Mid-Supply Reference. This pin is connected to an on-chip resistive voltage divider to provide a midsupply reference. This provides a convenient way to set the output common mode level at half-supply. If used for this (See Datasheet)", 8 +IN (in) "Inverting and Noninverting Inputs of the Amplifier. For the LTC1992 part, these pins are connected directly to the amplifier’s P-channel MOSFET input devices. The fixed gain LTC1992-X parts have precision, on-chip gain (See Datasheet)"